# Altium footprint library 3020-40-0100-00.PcbLib: 1 footprints
Each footprint in its own frame and in the unit in brackets; x right, y up, seen from the top. Pads: shape width x height; smd on the part's side, far side on the other; paste and mask are expansions set on the pad; w line width, h text height; cw(c..) or ccw(c..) is an arc to the next point about the centre after c.
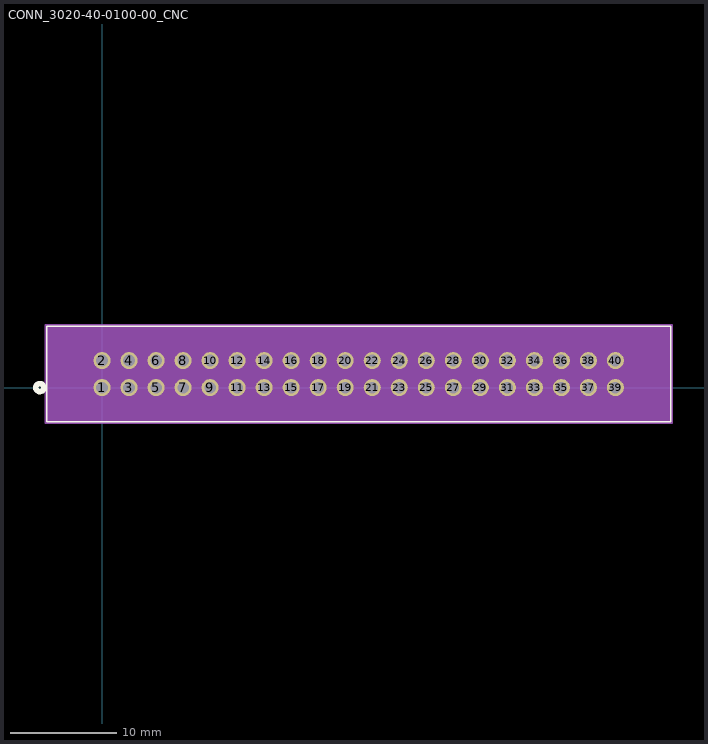
[diagram p0: the footprint, top view; thin cyan lines are the x and y axes]

## CONN_3020-40-0100-00_CNC [mil]
pads (40):
  round 63 / inner round 60 / far side round 63 hole 43 paste-99999 mask-31.5: 1(0,0) 2(0,100) 3(100,0) 4(100,100) 5(200,0) 6(200,100) 7(300,0) 8(300,100) 9(400,0) 10(400,100) 11(500,0) 12(500,100) 13(600,0) 14(600,100) 15(700,0) 16(700,100) 17(800,0) 18(800,100) 19(900,0) 20(900,100) 21(1000,0) 22(1000,100) 23(1100,0) 24(1100,100) 25(1200,0) 26(1200,100) 27(1300,0) 28(1300,100) 29(1400,0) 30(1400,100) 31(1500,0) 32(1500,100) 33(1600,0) 34(1600,100) 35(1700,0) 36(1700,100) 37(1800,0) 38(1800,100) 39(1900,0) 40(1900,100)
Top Overlay:
  circle w20: c-230,0 r15
  lines w6: -205,-126.76 -205,227.24 2105,227.24 2105,-126.76 -205,-126.76
Bottom Overlay:
  circle w20: c-230,0 r15
Mechanical 13:
  circle w20: c0,-75 r15
  lines w1: -200,-121.76 -200,222.24 2100,222.24 2100,-121.76 -200,-121.76
Mechanical 15:
  region: 2110,232.24 -210,232.24 -210,-131.76 2110,-131.76
  lines w6: -210,-131.76 2110,-131.76 2110,232.24 -210,232.24 -210,-131.76
3D body "Conector RIBBON 40 Pines.stp": height 390, standoff -118, extent -200,-130 2100,230